# Altium schematic symbol library conn-5x2_ellipse_micro.Schlib: 1 symbol
Pins are listed as number, name and electrical type; pins without a type are passive.

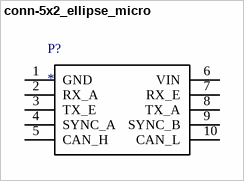
[diagram p0: symbol conn-5x2_ellipse_micro]

## conn-5x2_ellipse_micro
designator P?
Connector for the Ellipse Micro IMU
pins: 1 GND, 2 RX_A, 3 TX_E, 4 SYNC_A, 5 CAN_H, 6 VIN, 7 RX_E, 8 TX_A, 9 SYNC_B, 10 CAN_L